# EAGLE library part ICD15S13E4GV00LF (library con-subd)
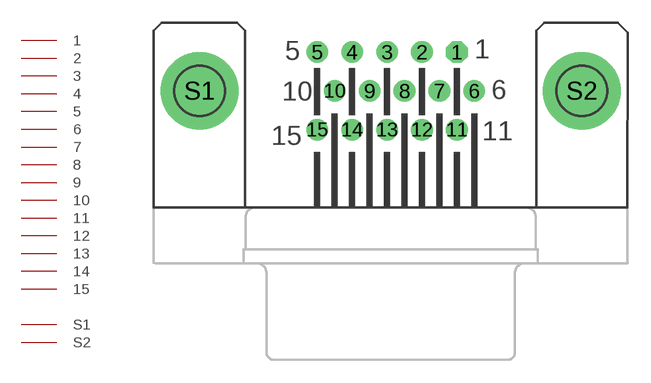
[diagram p75: symbol with the pads of HDF15H; footprint HDF15H]

Designator prefix J

## ICD15S13E4GV00LF  [HDF15H]
1  1
2  2
3  3
4  4
5  5
6  6
7  7
8  8
9  9
10  10
11  11
12  12
13  13
14  14
15  15
S1  S1
S2  S2

## Footprint HDF15H (pad centres in mm)
SUB-D
drill 0.9 octagon: 1 4.329,2.54
drill 0.9: 2 2.043,2.54; 3 -0.243,2.54; 4 -2.529,2.54; 5 -4.815,2.54; 6 5.472,0; 7 3.186,0; 8 0.9,0; 9 -1.386,0; 10 -3.672,0; 11 4.329,-2.54; 12 2.043,-2.54; 13 -0.243,-2.54; 14 -2.529,-2.54; 15 -4.815,-2.54
drill 3 pad 5.08: S1 -12.5,0; S2 12.5,0